# EAGLE library part SOC_RV1106 (library !GPLIB_ACTIVE)
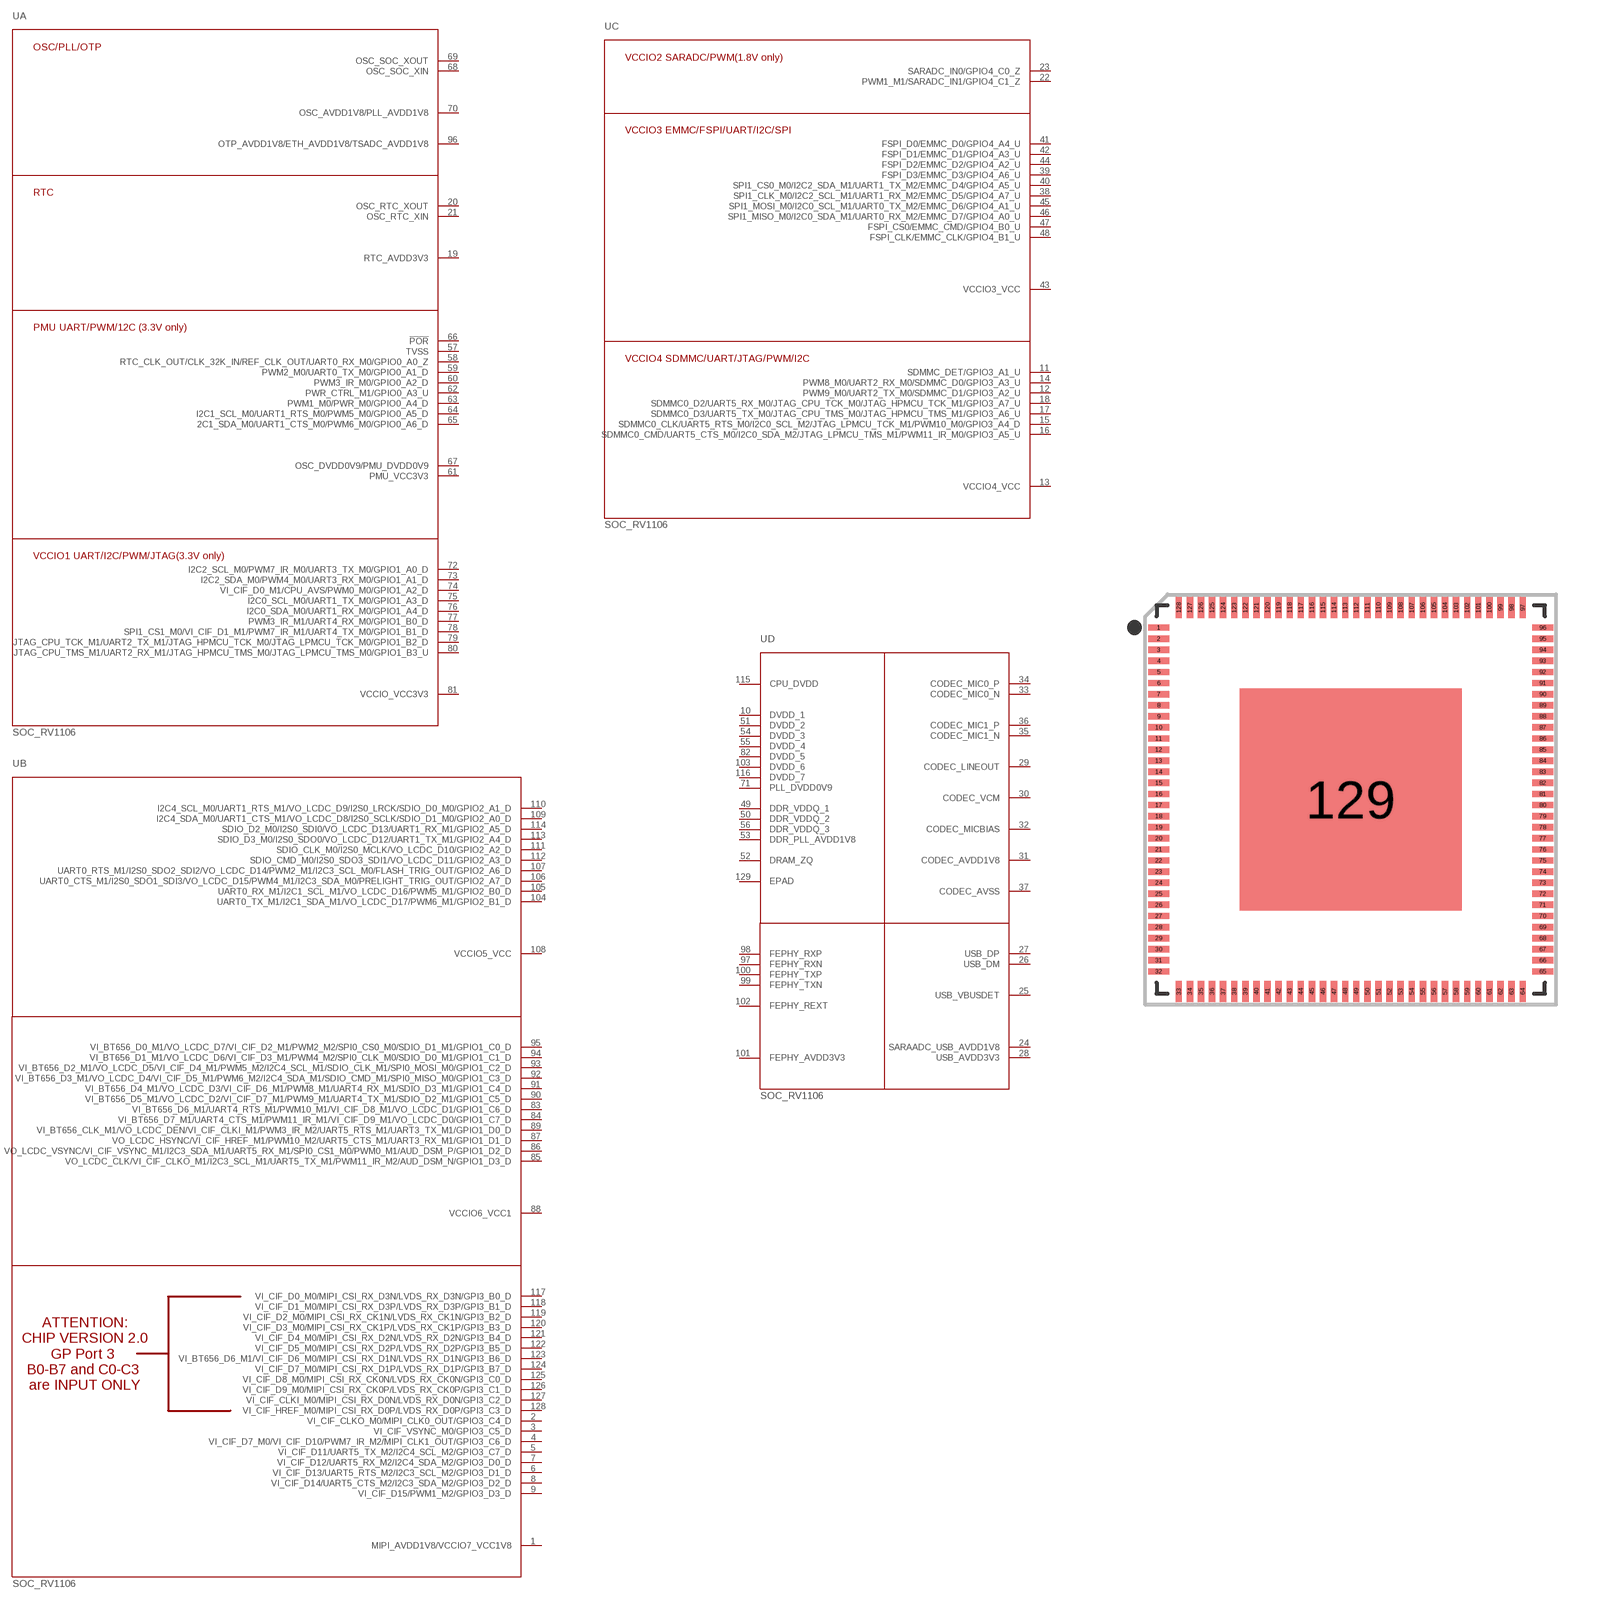
[diagram p65: symbol with the pads of QFN-128_L12.3-W12.3-P0.35-TL-EP7.0-1; footprint QFN-128_L12.3-W12.3-P0.35-TL-EP7.0-1]

Designator prefix U; gates A=RV1106G3-A C=RV1106G3-B B=RV1106G3-C D=RV1106G3-D

## SOC_RV1106_G3  [QFN-128_L12.3-W12.3-P0.35-TL-EP7.0-1]
1  B:MIPI_AVDD1V8/VCCIO7_VCC1V8
2  B:VI_CIF_CLKO_M0/MIPI_CLK0_OUT/GPIO3_C4_D
3  B:VI_CIF_VSYNC_M0/GPIO3_C5_D
4  B:VI_CIF_D7_M0/VI_CIF_D10/PWM7_IR_M2/MIPI_CLK1_OUT/GPIO3_C6_D
5  B:VI_CIF_D11/UART5_TX_M2/I2C4_SCL_M2/GPIO3_C7_D
6  B:VI_CIF_D13/UART5_RTS_M2/I2C3_SCL_M2/GPIO3_D1_D
7  B:VI_CIF_D12/UART5_RX_M2/I2C4_SDA_M2/GPIO3_D0_D
8  B:VI_CIF_D14/UART5_CTS_M2/I2C3_SDA_M2/GPIO3_D2_D
9  B:VI_CIF_D15/PWM1_M2/GPIO3_D3_D
10  D:DVDD_1
11  C:SDMMC_DET/GPIO3_A1_U
12  C:PWM9_M0/UART2_TX_M0/SDMMC_D1/GPIO3_A2_U
13  C:VCCIO4_VCC
14  C:PWM8_M0/UART2_RX_M0/SDMMC_D0/GPIO3_A3_U
15  C:SDMMC0_CLK/UART5_RTS_M0/I2C0_SCL_M2/JTAG_LPMCU_TCK_M1/PWM10_M0/GPIO3_A4_D
16  C:SDMMC0_CMD/UART5_CTS_M0/I2C0_SDA_M2/JTAG_LPMCU_TMS_M1/PWM11_IR_M0/GPIO3_A5_U
17  C:SDMMC0_D3/UART5_TX_M0/JTAG_CPU_TMS_M0/JTAG_HPMCU_TMS_M1/GPIO3_A6_U
18  C:SDMMC0_D2/UART5_RX_M0/JTAG_CPU_TCK_M0/JTAG_HPMCU_TCK_M1/GPIO3_A7_U
19  A:RTC_AVDD3V3
20  A:OSC_RTC_XOUT
21  A:OSC_RTC_XIN
22  C:PWM1_M1/SARADC_IN1/GPIO4_C1_Z
23  C:SARADC_IN0/GPIO4_C0_Z
24  D:SARAADC_USB_AVDD1V8
25  D:USB_VBUSDET
26  D:USB_DM
27  D:USB_DP
28  D:USB_AVDD3V3
29  D:CODEC_LINEOUT
30  D:CODEC_VCM
31  D:CODEC_AVDD1V8
32  D:CODEC_MICBIAS
33  D:CODEC_MIC0_N
34  D:CODEC_MIC0_P
35  D:CODEC_MIC1_N
36  D:CODEC_MIC1_P
37  D:CODEC_AVSS
38  C:SPI1_CLK_M0/I2C2_SCL_M1/UART1_RX_M2/EMMC_D5/GPIO4_A7_U
39  C:FSPI_D3/EMMC_D3/GPIO4_A6_U
40  C:SPI1_CS0_M0/I2C2_SDA_M1/UART1_TX_M2/EMMC_D4/GPIO4_A5_U
41  C:FSPI_D0/EMMC_D0/GPIO4_A4_U
42  C:FSPI_D1/EMMC_D1/GPIO4_A3_U
43  C:VCCIO3_VCC
44  C:FSPI_D2/EMMC_D2/GPIO4_A2_U
45  C:SPI1_MOSI_M0/I2C0_SCL_M1/UART0_TX_M2/EMMC_D6/GPIO4_A1_U
46  C:SPI1_MISO_M0/I2C0_SDA_M1/UART0_RX_M2/EMMC_D7/GPIO4_A0_U
47  C:FSPI_CS0/EMMC_CMD/GPIO4_B0_U
48  C:FSPI_CLK/EMMC_CLK/GPIO4_B1_U
49  D:DDR_VDDQ_1
50  D:DDR_VDDQ_2
51  D:DVDD_2
52  D:DRAM_ZQ
53  D:DDR_PLL_AVDD1V8
54  D:DVDD_3
55  D:DVDD_4
56  D:DDR_VDDQ_3
57  A:TVSS
58  A:RTC_CLK_OUT/CLK_32K_IN/REF_CLK_OUT/UART0_RX_M0/GPIO0_A0_Z
59  A:PWM2_M0/UART0_TX_M0/GPIO0_A1_D
60  A:PWM3_IR_M0/GPIO0_A2_D
61  A:PMU_VCC3V3
62  A:PWR_CTRL_M1/GPIO0_A3_U
63  A:PWM1_M0/PWR_M0/GPIO0_A4_D
64  A:I2C1_SCL_M0/UART1_RTS_M0/PWM5_M0/GPIO0_A5_D
65  A:2C1_SDA_M0/UART1_CTS_M0/PWM6_M0/GPIO0_A6_D
66  A:!POR
67  A:OSC_DVDD0V9/PMU_DVDD0V9
68  A:OSC_SOC_XIN
69  A:OSC_SOC_XOUT
70  A:OSC_AVDD1V8/PLL_AVDD1V8
71  D:PLL_DVDD0V9
72  A:I2C2_SCL_M0/PWM7_IR_M0/UART3_TX_M0/GPIO1_A0_D
73  A:I2C2_SDA_M0/PWM4_M0/UART3_RX_M0/GPIO1_A1_D
74  A:VI_CIF_D0_M1/CPU_AVS/PWM0_M0/GPIO1_A2_D
75  A:I2C0_SCL_M0/UART1_TX_M0/GPIO1_A3_D
76  A:I2C0_SDA_M0/UART1_RX_M0/GPIO1_A4_D
77  A:PWM3_IR_M1/UART4_RX_M0/GPIO1_B0_D
78  A:SPI1_CS1_M0/VI_CIF_D1_M1/PWM7_IR_M1/UART4_TX_M0/GPIO1_B1_D
79  A:JTAG_CPU_TCK_M1/UART2_TX_M1/JTAG_HPMCU_TCK_M0/JTAG_LPMCU_TCK_M0/GPIO1_B2_D
80  A:JTAG_CPU_TMS_M1/UART2_RX_M1/JTAG_HPMCU_TMS_M0/JTAG_LPMCU_TMS_M0/GPIO1_B3_U
81  A:VCCIO_VCC3V3
82  D:DVDD_5
83  B:VI_BT656_D6_M1/UART4_RTS_M1/PWM10_M1/VI_CIF_D8_M1/VO_LCDC_D1/GPIO1_C6_D
84  B:VI_BT656_D7_M1/UART4_CTS_M1/PWM11_IR_M1/VI_CIF_D9_M1/VO_LCDC_D0/GPIO1_C7_D
85  B:VO_LCDC_CLK/VI_CIF_CLKO_M1/I2C3_SCL_M1/UART5_TX_M1/PWM11_IR_M2/AUD_DSM_N/GPIO1_D3_D
86  B:VO_LCDC_VSYNC/VI_CIF_VSYNC_M1/I2C3_SDA_M1/UART5_RX_M1/SPI0_CS1_M0/PWM0_M1/AUD_DSM_P/GPIO1_D2_D
87  B:VO_LCDC_HSYNC/VI_CIF_HREF_M1/PWM10_M2/UART5_CTS_M1/UART3_RX_M1/GPIO1_D1_D
88  B:VCCIO6_VCC1
89  B:VI_BT656_CLK_M1/VO_LCDC_DEN/VI_CIF_CLKI_M1/PWM3_IR_M2/UART5_RTS_M1/UART3_TX_M1/GPIO1_D0_D
90  B:VI_BT656_D5_M1/VO_LCDC_D2/VI_CIF_D7_M1/PWM9_M1/UART4_TX_M1/SDIO_D2_M1/GPIO1_C5_D
91  B:VI_BT656_D4_M1/VO_LCDC_D3/VI_CIF_D6_M1/PWM8_M1/UART4_RX_M1/SDIO_D3_M1/GPIO1_C4_D
92  B:VI_BT656_D3_M1/VO_LCDC_D4/VI_CIF_D5_M1/PWM6_M2/I2C4_SDA_M1/SDIO_CMD_M1/SPI0_MISO_M0/GPIO1_C3_D
93  B:VI_BT656_D2_M1/VO_LCDC_D5/VI_CIF_D4_M1/PWM5_M2/I2C4_SCL_M1/SDIO_CLK_M1/SPI0_MOSI_M0/GPIO1_C2_D
94  B:VI_BT656_D1_M1/VO_LCDC_D6/VI_CIF_D3_M1/PWM4_M2/SPI0_CLK_M0/SDIO_D0_M1/GPIO1_C1_D
95  B:VI_BT656_D0_M1/VO_LCDC_D7/VI_CIF_D2_M1/PWM2_M2/SPI0_CS0_M0/SDIO_D1_M1/GPIO1_C0_D
96  A:OTP_AVDD1V8/ETH_AVDD1V8/TSADC_AVDD1V8
97  D:FEPHY_RXN
98  D:FEPHY_RXP
99  D:FEPHY_TXN
100  D:FEPHY_TXP
101  D:FEPHY_AVDD3V3
102  D:FEPHY_REXT
103  D:DVDD_6
104  B:UART0_TX_M1/I2C1_SDA_M1/VO_LCDC_D17/PWM6_M1/GPIO2_B1_D
105  B:UART0_RX_M1/I2C1_SCL_M1/VO_LCDC_D16/PWM5_M1/GPIO2_B0_D
106  B:UART0_CTS_M1/I2S0_SDO1_SDI3/VO_LCDC_D15/PWM4_M1/I2C3_SDA_M0/PRELIGHT_TRIG_OUT/GPIO2_A7_D
107  B:UART0_RTS_M1/I2S0_SDO2_SDI2/VO_LCDC_D14/PWM2_M1/I2C3_SCL_M0/FLASH_TRIG_OUT/GPIO2_A6_D
108  B:VCCIO5_VCC
109  B:I2C4_SDA_M0/UART1_CTS_M1/VO_LCDC_D8/I2S0_SCLK/SDIO_D1_M0/GPIO2_A0_D
110  B:I2C4_SCL_M0/UART1_RTS_M1/VO_LCDC_D9/I2S0_LRCK/SDIO_D0_M0/GPIO2_A1_D
111  B:SDIO_CLK_M0/I2S0_MCLK/VO_LCDC_D10/GPIO2_A2_D
112  B:SDIO_CMD_M0/I2S0_SDO3_SDI1/VO_LCDC_D11/GPIO2_A3_D
113  B:SDIO_D3_M0/I2S0_SDO0/VO_LCDC_D12/UART1_TX_M1/GPIO2_A4_D
114  B:SDIO_D2_M0/I2S0_SDI0/VO_LCDC_D13/UART1_RX_M1/GPIO2_A5_D
115  D:CPU_DVDD
116  D:DVDD_7
117  B:VI_CIF_D0_M0/MIPI_CSI_RX_D3N/LVDS_RX_D3N/GPI3_B0_D
118  B:VI_CIF_D1_M0/MIPI_CSI_RX_D3P/LVDS_RX_D3P/GPI3_B1_D
119  B:VI_CIF_D2_M0/MIPI_CSI_RX_CK1N/LVDS_RX_CK1N/GPI3_B2_D
120  B:VI_CIF_D3_M0/MIPI_CSI_RX_CK1P/LVDS_RX_CK1P/GPI3_B3_D
121  B:VI_CIF_D4_M0/MIPI_CSI_RX_D2N/LVDS_RX_D2N/GPI3_B4_D
122  B:VI_CIF_D5_M0/MIPI_CSI_RX_D2P/LVDS_RX_D2P/GPI3_B5_D
123  B:VI_BT656_D6_M1/VI_CIF_D6_M0/MIPI_CSI_RX_D1N/LVDS_RX_D1N/GPI3_B6_D
124  B:VI_CIF_D7_M0/MIPI_CSI_RX_D1P/LVDS_RX_D1P/GPI3_B7_D
125  B:VI_CIF_D8_M0/MIPI_CSI_RX_CK0N/LVDS_RX_CK0N/GPI3_C0_D
126  B:VI_CIF_D9_M0/MIPI_CSI_RX_CK0P/LVDS_RX_CK0P/GPI3_C1_D
127  B:VI_CIF_CLKI_M0/MIPI_CSI_RX_D0N/LVDS_RX_D0N/GPI3_C2_D
128  B:VI_CIF_HREF_M0/MIPI_CSI_RX_D0P/LVDS_RX_D0P/GPI3_C3_D
129  D:EPAD

## Footprint QFN-128_L12.3-W12.3-P0.35-TL-EP7.0-1 (pad centres in mm)
smd 0.67 x 0.2: 1 -6.057,5.425; 2 -6.057,5.075; 3 -6.057,4.725; 4 -6.057,4.375; 5 -6.057,4.025; 6 -6.057,3.675; 7 -6.057,3.325; 8 -6.057,2.975; 9 -6.057,2.625; 10 -6.057,2.275; 11 -6.057,1.925; 12 -6.057,1.575; 13 -6.057,1.225; 14 -6.057,0.875; 15 -6.057,0.525; 16 -6.057,0.175; 17 -6.057,-0.175; 18 -6.057,-0.525; 19 -6.057,-0.875; 20 -6.057,-1.225; 21 -6.057,-1.575; 22 -6.057,-1.925; 23 -6.057,-2.275; 24 -6.057,-2.625; 25 -6.057,-2.975; 26 -6.057,-3.325; 27 -6.057,-3.675; 28 -6.057,-4.025; 29 -6.057,-4.375; 30 -6.057,-4.725; 31 -6.057,-5.075; 32 -6.057,-5.425; 65 6.057,-5.425; 66 6.057,-5.075; 67 6.057,-4.725; 68 6.057,-4.375; 69 6.057,-4.025; 70 6.057,-3.675; 71 6.057,-3.325; 72 6.057,-2.975; 73 6.057,-2.625; 74 6.057,-2.275; 75 6.057,-1.925; 76 6.057,-1.575; 77 6.057,-1.225; 78 6.057,-0.875; 79 6.057,-0.525; 80 6.057,-0.175; 81 6.057,0.175; 82 6.057,0.525; 83 6.057,0.875; 84 6.057,1.225; 85 6.057,1.575; 86 6.057,1.925; 87 6.057,2.275; 88 6.057,2.625; 89 6.057,2.975; 90 6.057,3.325; 91 6.057,3.675; 92 6.057,4.025; 93 6.057,4.375; 94 6.057,4.725; 95 6.057,5.075; 96 6.057,5.425
smd 0.2 x 0.67: 33 -5.425,-6.057; 34 -5.075,-6.057; 35 -4.725,-6.057; 36 -4.375,-6.057; 37 -4.025,-6.057; 38 -3.675,-6.057; 39 -3.325,-6.057; 40 -2.975,-6.057; 41 -2.625,-6.057; 42 -2.275,-6.057; 43 -1.925,-6.057; 44 -1.575,-6.057; 45 -1.225,-6.057; 46 -0.875,-6.057; 47 -0.525,-6.057; 48 -0.175,-6.057; 49 0.175,-6.057; 50 0.525,-6.057; 51 0.875,-6.057; 52 1.225,-6.057; 53 1.575,-6.057; 54 1.925,-6.057; 55 2.275,-6.057; 56 2.625,-6.057; 57 2.975,-6.057; 58 3.325,-6.057; 59 3.675,-6.057; 60 4.025,-6.057; 61 4.375,-6.057; 62 4.725,-6.057; 63 5.075,-6.057; 64 5.425,-6.057; 97 5.425,6.057; 98 5.075,6.057; 99 4.725,6.057; 100 4.375,6.057; 101 4.025,6.057; 102 3.675,6.057; 103 3.325,6.057; 104 2.975,6.057; 105 2.625,6.057; 106 2.275,6.057; 107 1.925,6.057; 108 1.575,6.057; 109 1.225,6.057; 110 0.875,6.057; 111 0.525,6.057; 112 0.175,6.057; 113 -0.175,6.057; 114 -0.525,6.057; 115 -0.875,6.057; 116 -1.225,6.057; 117 -1.575,6.057; 118 -1.925,6.057; 119 -2.275,6.057; 120 -2.625,6.057; 121 -2.975,6.057; 122 -3.325,6.057; 123 -3.675,6.057; 124 -4.025,6.057; 125 -4.375,6.057; 126 -4.725,6.057; 127 -5.075,6.057; 128 -5.425,6.057
smd 7 x 7: 129 0,0